# EAGLE library part DSPIC30F4011 (library ic-Microchip)
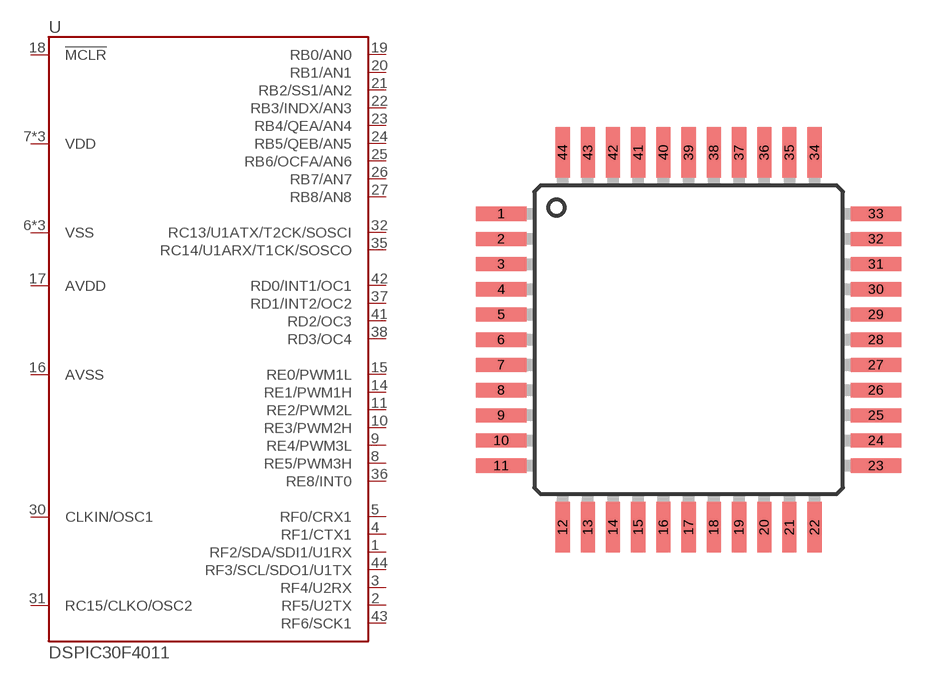
[diagram p1: symbol with the pads of QFP44-0.8; footprint QFP44-0.8]

Designator prefix U

## DSPIC30F4011  [QFP44-0.8]
1  RF2/SDA/SDI1/U1RX
2  RF5/U2TX
3  RF4/U2RX
4  RF1/CTX1
5  RF0/CRX1
6  VSS
7  VDD
8  RE5/PWM3H
9  RE4/PWM3L
10  RE3/PWM2H
11  RE2/PWM2L
14  RE1/PWM1H
15  RE0/PWM1L
16  AVSS
17  AVDD
18  !MCLR
19  RB0/AN0
20  RB1/AN1
21  RB2/SS1/AN2
22  RB3/INDX/AN3
23  RB4/QEA/AN4
24  RB5/QEB/AN5
25  RB6/OCFA/AN6
26  RB7/AN7
27  RB8/AN8
28  VDD
29  VSS
30  CLKIN/OSC1
31  RC15/CLKO/OSC2
32  RC13/U1ATX/T2CK/SOSCI
35  RC14/U1ARX/T1CK/SOSCO
36  RE8/INT0
37  RD1/INT2/OC2
38  RD3/OC4
39  VSS
40  VDD
41  RD2/OC3
42  RD0/INT1/OC1
43  RF6/SCK1
44  RF3/SCL/SDO1/U1TX

## Footprint QFP44-0.8 (pad centres in mm)
smd 1.6 x 0.45: 1 -5.95,4; 2 -5.95,3.2; 3 -5.95,2.4; 4 -5.95,1.6; 5 -5.95,0.8; 6 -5.95,0; 7 -5.95,-0.8; 8 -5.95,-1.6; 9 -5.95,-2.4; 10 -5.95,-3.2; 11 -5.95,-4; 23 5.95,-4; 24 5.95,-3.2; 25 5.95,-2.4; 26 5.95,-1.6; 27 5.95,-0.8; 28 5.95,0; 29 5.95,0.8; 30 5.95,1.6; 31 5.95,2.4; 32 5.95,3.2; 33 5.95,4
smd 0.45 x 1.6: 12 -4,-5.95; 13 -3.2,-5.95; 14 -2.4,-5.95; 15 -1.6,-5.95; 16 -0.8,-5.95; 17 0,-5.95; 18 0.8,-5.95; 19 1.6,-5.95; 20 2.4,-5.95; 21 3.2,-5.95; 22 4,-5.95; 34 4,5.95; 35 3.2,5.95; 36 2.4,5.95; 37 1.6,5.95; 38 0.8,5.95; 39 0,5.95; 40 -0.8,5.95; 41 -1.6,5.95; 42 -2.4,5.95; 43 -3.2,5.95; 44 -4,5.95